# EAGLE library part MS5611-01BA (library samuel)
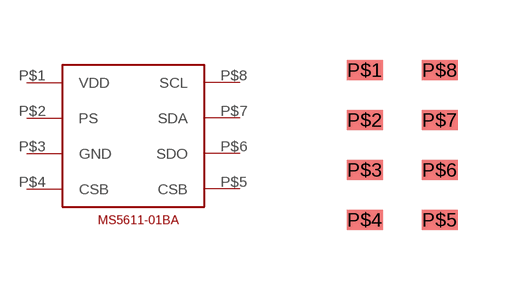
[diagram p11: symbol with the pads of MS5611-01BA; footprint MS5611-01BA]

Designator prefix -

## MS5611-01BA  [MS5611-01BA]
P$1  VDD  pwr
P$2  PS  in
P$3  GND  pwr
P$4  CSB  in
P$5  CSB  in
P$6  SDO  out
P$7  SDA
P$8  SCL  in

## Footprint MS5611-01BA (pad centres in mm)
smd 0.9 x 0.5: P$1 -1.25,1.875; P$2 -1.25,0.625; P$3 -1.25,-0.625; P$4 -1.25,-1.875; P$5 0.625,-1.875; P$6 0.625,-0.625; P$7 0.625,0.625; P$8 0.625,1.875